# Altium schematic symbol library TLS850B0TEV50.SchLib: 1 symbol
Pins are listed as number, name and electrical type; pins without a type are passive.

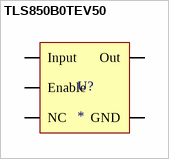
[diagram p0: symbol TLS850B0TEV50]

## TLS850B0TEV50
designator U?
pins: 1 Input, 2 Enable, 4 NC, 5 Out, 6 GND